# EAGLE library part 74*125 (library SW_Logic)
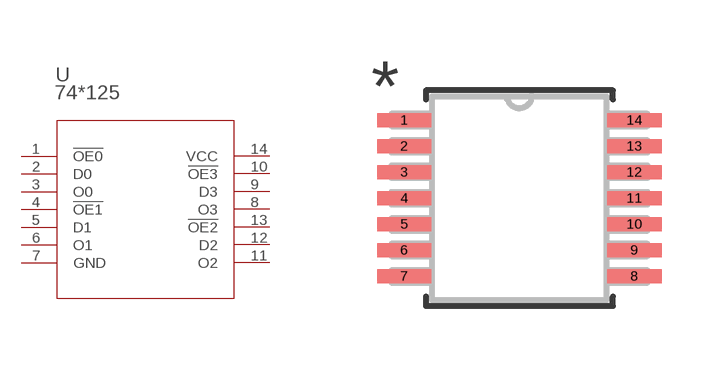
[diagram p0: symbol with the pads of TSSOP14; footprint TSSOP14]

Designator prefix U

## 74125 (CATEGORY: Logic IC)  [TSSOP14]
1  !OE0
2  D0  in
3  O0  out
4  !OE1
5  D1  in
6  O1  out
7  GND  pwr
8  O3  out
9  D3  in
10  !OE3
11  O2  out
12  D2  in
13  !OE2
14  VCC  pwr

## Footprint TSSOP14 (pad centres in mm)
smd 1.359 x 0.356: 1 -2.877,1.95; 2 -2.877,1.3; 3 -2.877,0.65; 4 -2.877,0; 5 -2.877,-0.65; 6 -2.877,-1.3; 7 -2.877,-1.95; 8 2.877,-1.95; 9 2.877,-1.3; 10 2.877,-0.65; 11 2.877,0; 12 2.877,0.65; 13 2.877,1.3; 14 2.877,1.95